# Altium schematic symbol library SCH - PASSIVES - SHUNT - PU2512FKNP50R001L.Schlib: 1 symbol
Pins are listed as number, name and electrical type; pins without a type are passive.

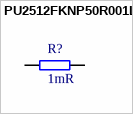
[diagram p0: symbol PU2512FKNP50R001L]

## PU2512FKNP50R001L
designator R?, comment 1mR
Shunt 0.001R, 5W, 1%, 50ppm/°C
pins: 1, 2